# Altium schematic symbol library mcu.SchLib: 4 symbols
Pins are listed as number, name and electrical type; pins without a type are passive.

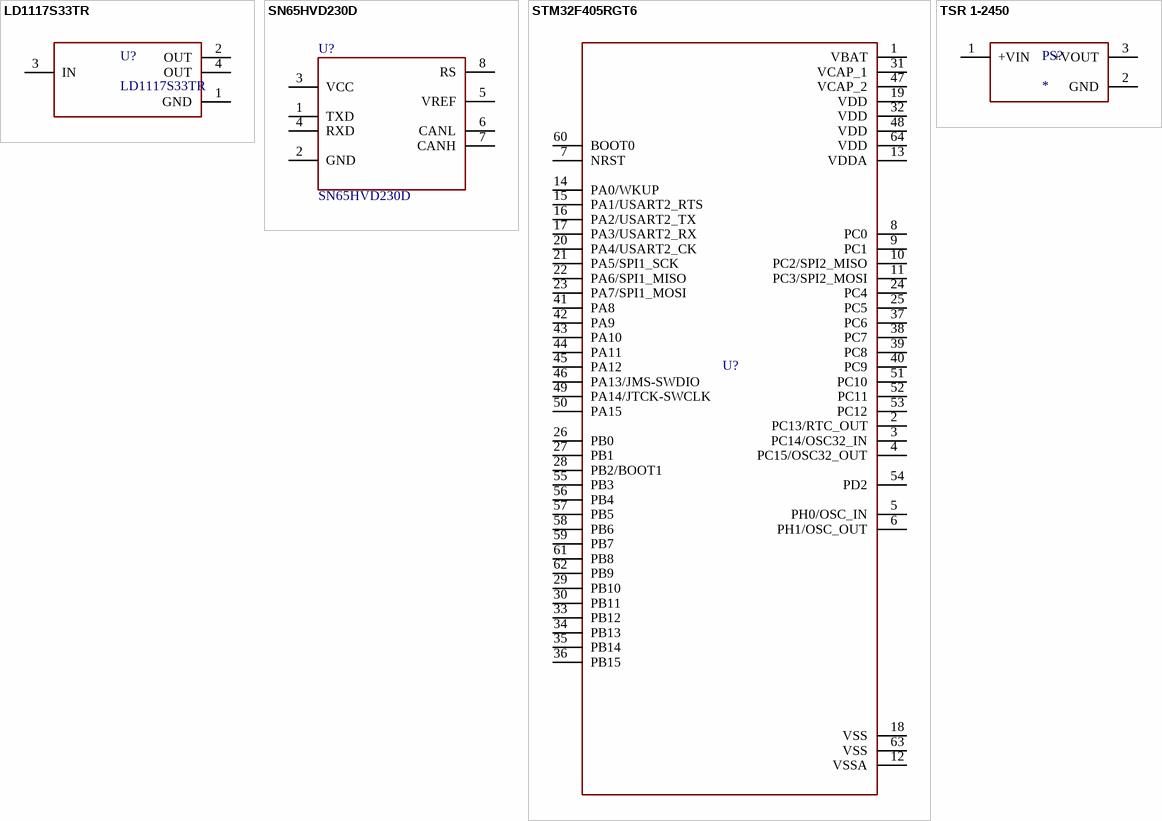
[diagram p0: symbols LD1117S33TR to TSR 1-2450]

## LD1117S33TR
designator U?
Linear Voltage Regulator IC Positive Fixed 1 Output 800mA SOT-223; MF: STMicroelectronics; Value: *; SnapEDA_Link: https://www.snapeda.com/parts/LD1117S33TR/STMicroelectronics/view-part/?ref=snap; MP: LD1117S33TR; Purchase-URL: https://pricing.snapeda.com/search/part/LD1117S33TR/?ref=eda; Check_prices: https://www.snapeda.com/parts/LD1117S33TR/STMicroelectronics/view-part/?ref=eda; Availability: In Stock; Price: None; Package: TO-261-4 STMicroelectronics
footprint SOT223 (SOT223, 4-Leads, Body 6.50x7.00mm (avg), Pitch 2.30mm, IPC Medium Density)
pins: 1 GND (power), 2 OUT (power), 3 IN (oc), 4 OUT (power)

## SN65HVD230D
designator U?
TI, 1/1 Transceiver Half CANbus 8-SO(); Part: SN65HVD230D
footprint SOIC8 (SOIC, 8-Leads, Body 4.90x3.90mm, Pitch 1.27mm, IPC Medium Density)
pins: 1 TXD, 2 GND, 3 VCC, 4 RXD, 5 VREF, 6 CANL, 7 CANH, 8 RS

## STM32F405RGT6
designator U?  (value not drawn)
ARM CortexA-M4 STM32F4 Microcontroller IC 32-Bit Single-Core 168MHz 1MB (1M x 8) FLASH 64-LQFP (10x10); MF: STMicroelectronics; MP: STM32F405RGT6; SnapEDA_Link: https://www.snapeda.com/parts/STM32F405RGT6/STMicroelectronics/view-part/?ref=snap; Package: LQFP-64 STMicroelectronics; Value: *; Check_prices: https://www.snapeda.com/parts/STM32F405RGT6/STMicroelectronics/view-part/?ref=eda
footprint LQFP64 (SQFP, 64-Leads, Body 10.00x10.00mm, Pitch 0.50mm, IPC Medium Density)
pins: 1 VBAT (power), 2 PC13/RTC_OUT (oc), 3 PC14/OSC32_IN (oc), 4 PC15/OSC32_OUT (oc), 5 PH0/OSC_IN (oc), 6 PH1/OSC_OUT (oc), 7 NRST (oc), 8 PC0 (oc), 9 PC1 (oc), 10 PC2/SPI2_MISO (oc), 11 PC3/SPI2_MOSI (oc), 12 VSSA (power), 13 VDDA (power), 14 PA0/WKUP (oc), 15 PA1/USART2_RTS (oc), 16 PA2/USART2_TX (oc), 17 PA3/USART2_RX (oc), 18 VSS (power), 19 VDD (power), 20 PA4/USART2_CK (oc), 21 PA5/SPI1_SCK (oc), 22 PA6/SPI1_MISO (oc), 23 PA7/SPI1_MOSI (oc), 24 PC4 (oc), 25 PC5 (oc), 26 PB0 (oc), 27 PB1 (oc), 28 PB2/BOOT1 (oc), 29 PB10 (oc), 30 PB11 (oc), 31 VCAP_1 (power), 32 VDD (power), 33 PB12 (oc), 34 PB13 (oc), 35 PB14 (oc), 36 PB15 (oc), 37 PC6 (oc), 38 PC7 (oc), 39 PC8 (oc), 40 PC9 (oc), 41 PA8 (oc), 42 PA9 (oc), 43 PA10 (oc), 44 PA11 (oc), 45 PA12 (oc), 46 PA13/JMS-SWDIO (oc), 47 VCAP_2 (power), 48 VDD (power), 49 PA14/JTCK-SWCLK (oc), 50 PA15 (oc), 51 PC10 (oc), 52 PC11 (oc), 53 PC12 (oc), 54 PD2 (oc), 55 PB3 (oc), 56 PB4 (oc), 57 PB5 (oc), 58 PB6 (oc), 59 PB7 (oc), 60 BOOT0 (oc), 61 PB8 (oc), 62 PB9 (oc), 63 VSS (power), 64 VDD (power)

## TSR 1-2450
designator PS?
MF: Traco Power; MP: TSR_1-2450; Value: *; Availability: Unavailable; Price: None; Package: None
footprint SIP3
pins: 1 +VIN (oc), 2 GND (power), 3 +VOUT (oc)